# Altium schematic symbol library AD5291.SchLib: 1 symbol
Pins are listed as number, name and electrical type; pins without a type are passive.

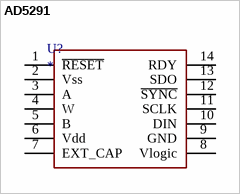
[diagram p0: symbol AD5291]

## AD5291
designator U?
256-/1024-Position, DigiPOT+ Potentiometers with   Maximum ±1% R-Tolerance Error and 20-TP Memory
footprint TSSOP-14
pins: 1 ~{RESET} "Termal Pad", 2 Vss "Termal Pad", 3 A "Termal Pad", 4 W "Termal Pad", 5 B "Termal Pad", 6 Vdd "Termal Pad", 7 EXT_CAP "Termal Pad", 8 Vlogic "Termal Pad", 9 GND "Termal Pad", 10 DIN "Termal Pad", 11 SCLK "Termal Pad", 12 ~{SYNC} "Termal Pad", 13 SDO "Termal Pad", 14 RDY "Termal Pad"